# EAGLE library part PTR5628 (library MCUs)
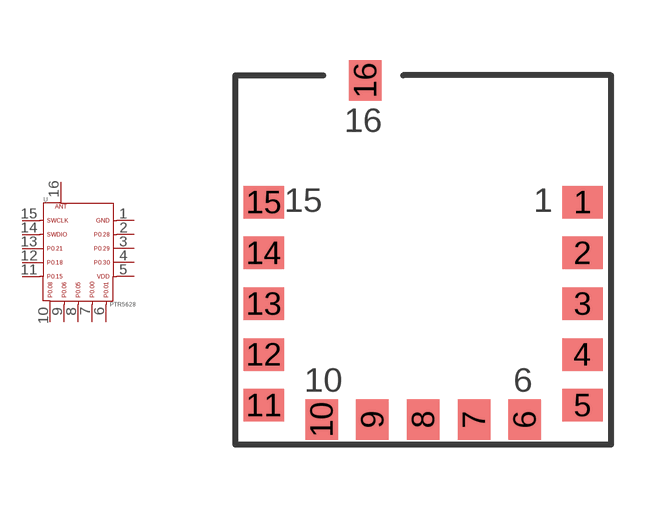
[diagram p8: symbol with the pads of PTR5628; footprint PTR5628]

Designator prefix U

## PTR5628  [PTR5628]
1  1  pas
2  2  pas
3  3  pas
4  4  pas
5  5  pas
6  6  pas
7  7  pas
8  8  pas
9  9  pas
10  10  pas
11  11  pas
12  12  pas
13  13  pas
14  14  pas
15  15  pas
16  16  pas

## Footprint PTR5628 (pad centres in mm)
smd 1.016 x 0.813: 1 3.988,1.448; 2 3.988,0.178; 3 3.988,-1.092; 4 3.988,-2.362; 5 3.988,-3.632; 11 -3.988,-3.632; 12 -3.988,-2.362; 13 -3.988,-1.092; 14 -3.988,0.178; 15 -3.988,1.448
smd 0.813 x 1.016: 6 2.54,-3.988; 7 1.27,-3.988; 8 0,-3.988; 9 -1.27,-3.988; 10 -2.54,-3.988; 16 -1.448,4.5